# Altium footprint library 杂项库.PcbLib: 585 footprints (part 30 of 37)
Each footprint in its own frame and in the unit in brackets; x right, y up, seen from the top. Pads: shape width x height; smd on the part's side, far side on the other; paste and mask are expansions set on the pad; w line width, h text height; cw(c..) or ccw(c..) is an arc to the next point about the centre after c.
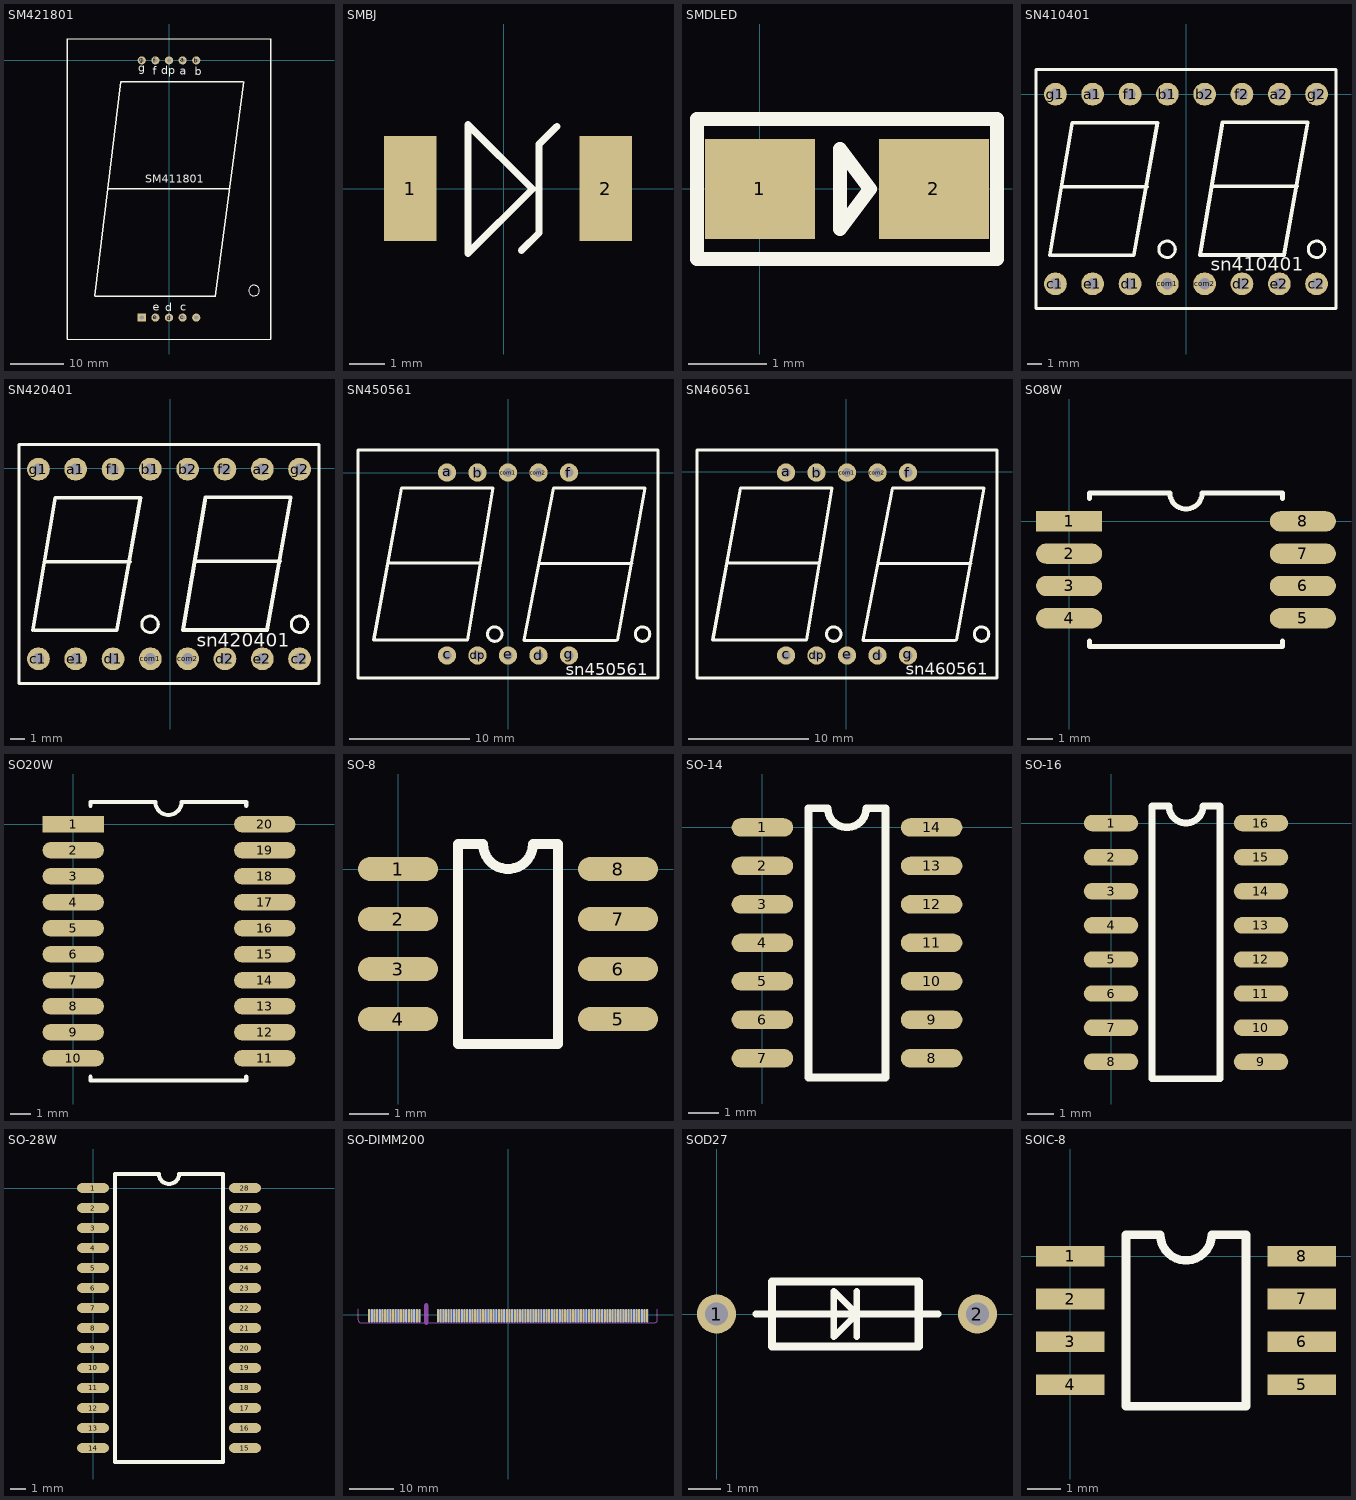
[diagram p29: the footprints below, top view; thin cyan lines are the x and y axes]

## SM421801 [mil]
pads (10):
  round 60 hole 32: a(100,0) b(200,0) c(100,-1889.76) com(200,-1889.76) d(0,-1889.76) dp(0,0) e(-100,-1889.76) f(-100,0) g(-200,0)
  rect 60x60 hole 32: com(-200,-1889.76)
Top Overlay:
  circle w8: c624.63,-1691 r39.37
  lines w8: -748.03,-2047.24 748.03,-2047.24 ; -748.03,157.48 748.03,157.48
  lines w10: -748.03,-2047.24 -748.03,157.48 ; -545,-1732.28 342.52,-1732.28 ; -545,-1728 -355.02,-157.48 544.2,-157.48 ; -451,-943 445,-943 ; 341.23,-1732.28 549,-157.48 ; 748.03,-2047.24 748.03,157.48
  text "SM411801" at -175,-900 h59.05
  text "d" at -27,-1843 h60
  text "c" at 83,-1838 h60
  text "dp" at -58,-100 h60
  text "e" at -121,-1838 h60
  text "b" at 188,-110 h60
  text "a" at 78,-105 h60
  text "f" at -121,-105 h60
  text "g" at -226,-84 h60

## SMBJ [mm]
pads (2):
  rect 1.5x3 smd: 1(-2.667,0) 2(2.921,0)
Top Overlay:
  lines w0.203: 0.508,-1.778 1.016,-1.27 1.016,1.27 1.524,1.778 ; -1.016,-1.854 0.826,-0.013 -1.016,1.829 -1.016,-1.854

## SMDLED [mm]
pads (2):
  rect 1.4x1.27 smd: 1(0.001,-0.002) 2(2.211,-0.002)
Top Overlay:
  lines w0.178: 3.012,0.887 3.011,0.887 ; 3.011,0.887 3.011,-0.891 -0.799,-0.891 -0.799,-0.002 -0.799,0.887 3.011,0.887 ; 1.017,-0.51 1.017,0.506 1.398,-0.002 1.017,-0.51

## SN410401 [mil]
pads (16):
  round 60 hole 30: a1(-246.06,0) a2(246.06,0) b1(-49.21,0) b2(49.21,0) c1(-344.49,-500) c2(344.49,-500) com1(-49.21,-500) com2(49.21,-500) d1(-147.64,-500) d2(147.64,-500) e1(-246.06,-500) e2(246.06,-500) f1(-147.64,0) f2(147.64,0) g1(-344.49,0) g2(344.49,0)
Top Overlay:
  circle w8: c-50,-409 r21.65
  circle w8: c344.35,-409 r21.65
  lines w8: -395.67,-564.96 -395.67,64.96 395.67,64.96 395.67,-564.96 -395.67,-564.96
  lines w10: -359.15,-425 -300,-75 -75,-75 -137.63,-425 ; -354,-425 -137.79,-425 ; -328,-244 -103,-244 ; 36.85,-424 96,-74 321,-74 258.37,-424 ; 42,-424 258.2,-424 ; 68,-243 293,-243
  text "sn410401" at 65,-465 h35.43

## SN420401 [mil]
pads (16):
  round 60 hole 30: a1(-249.06,-2) a2(243.06,-2) b1(-52.21,-2) b2(46.21,-2) c1(-347.49,-502) c2(341.49,-502) com1(-52.21,-502) com2(46.21,-502) d1(-150.64,-502) d2(144.64,-502) e1(-249.06,-502) e2(243.06,-502) f1(-150.64,-2) f2(144.64,-2) g1(-347.49,-2) g2(341.49,-2)
Top Overlay:
  circle w8: c341.35,-411 r21.65
  circle w8: c-53,-411 r21.65
  lines w8: -398.67,-566.96 392.67,-566.96 392.67,62.96 -398.67,62.96 -398.67,-566.96
  lines w10: -362.15,-427 -303,-77 -78,-77 -140.63,-427 ; -357,-427 -140.79,-427 ; -331,-246 -106,-246 ; 33.85,-426 93,-76 318,-76 255.37,-426 ; 39,-426 255.21,-426 ; 65,-245 290,-245
  text "sn420401" at 70,-470 h35.43

## SN450561 [mil]
pads (10):
  round 60 hole 30: a(-200,0) b(-100,0) c(-200,-600) com1(0,0) com2(100,0) d(100,-600) dp(-100,-600) e(0,-600) f(200,0) g(200,-600)
Top Overlay:
  circle w10: c-43.62,-530 r23.62
  circle w10: c441.38,-530 r23.62
  lines w10: -440.46,-550 -350,-50 -50,-50 -133.5,-550 -437.01,-550 ; -394,-297 -91,-297 ; 52.58,-550 150,-50 350,-50 450,-50 359.54,-550 ; 53.05,-551 354.33,-551 ; 101,-298 406,-298 ; -492.13,-674.02 492.13,-674.02 492.13,74.02 -492.13,74.02 -492.13,-674.02
  text "sn450561" at 190,-665 h39.37

## SN460561 [mil]
pads (10):
  round 60 hole 30: a(-198,-2) b(-98,-2) c(-198,-602) com1(2,-2) com2(102,-2) d(102,-602) dp(-98,-602) e(2,-602) f(202,-2) g(202,-602)
Top Overlay:
  circle w10: c443.38,-532 r23.62
  circle w10: c-41.62,-532 r23.62
  lines w10: -438.46,-552 -348,-52 -48,-52 -131.5,-552 -435.01,-552 ; -392,-299 -89,-299 ; 54.58,-552 152,-52 352,-52 452,-52 361.54,-552 ; 55.05,-553 356.33,-553 ; 103,-300 408,-300 ; -490.13,-676.02 -490.13,72.02 494.13,72.02 494.13,-676.02 -490.13,-676.02
  text "sn460561" at 195,-665 h39.37

## SO8W [mm]
pads (8):
  rect 2.6x0.8 smd: 1(0,0)
  oval 2.6x0.8 smd: 2(0,-1.27) 3(0,-2.54) 4(0,-3.81) 5(9.2,-3.81) 6(9.2,-2.54) 7(9.2,-1.27) 8(9.2,0)
Top Overlay:
  lines w0.2: 0.8,-4.71 0.8,-4.93 8.4,-4.93 8.4,-4.71 ; 0.8,0.9 0.8,1.12 3.965,1.12 ccw(c4.6,1.12) 5.235,1.12 8.4,1.12 8.4,0.9

## SO20W [mm]
pads (20):
  rect 3x0.8 smd: 1(0,0)
  oval 3x0.8 smd: 2(0,-1.27) 3(0,-2.54) 4(0,-3.81) 5(0,-5.08) 6(0,-6.35) 7(0,-7.62) 8(0,-8.89) 9(0,-10.16) 10(0,-11.43) 11(9.352,-11.43) 12(9.352,-10.16) 13(9.352,-8.89) 14(9.352,-7.62) 15(9.352,-6.35) 16(9.352,-5.08) 17(9.352,-3.81) 18(9.352,-2.54) 19(9.352,-1.27) 20(9.352,0)
Top Overlay:
  lines w0.2: 0.851,-12.33 0.851,-12.515 8.451,-12.515 8.451,-12.33 ; 0.851,0.9 0.851,1.085 4.016,1.085 ccw(c4.651,1.085) 5.286,1.085 8.451,1.085 8.451,0.9

## SO-8 [mil]
pads (8):
  oval 80x24 smd: 1(0,0) 2(0,-50) 3(0,-100) 4(0,-150) 5(220,-150) 6(220,-100) 7(220,-50) 8(220,0)
Top Overlay:
  lines w10: 60,-175 60,25 85,25 ccw(c110,25) 135,25 160,25 160,-175 60,-175

## SO-14 [mil]
pads (14):
  oval 80x24 smd: 1(0,0) 2(0,-50) 3(0,-100) 4(0,-150) 5(0,-200) 6(0,-250) 7(0,-300) 8(220,-300) 9(220,-250) 10(220,-200) 11(220,-150) 12(220,-100) 13(220,-50) 14(220,0)
Top Overlay:
  lines w10: 60,-325 160,-325 160,25 135,25 cw(c110,25) 85,25 60,25 60,-325

## SO-16 [mil]
pads (16):
  oval 80x24 smd: 1(0,0) 2(0,-50) 3(0,-100) 4(0,-150) 5(0,-200) 6(0,-250) 7(0,-300) 8(0,-350) 9(220,-350) 10(220,-300) 11(220,-250) 12(220,-200) 13(220,-150) 14(220,-100) 15(220,-50) 16(220,0)
Top Overlay:
  lines w10: 60,-375 60,25 85,25 ccw(c110,25) 135,25 160,25 160,-375 60,-375

## SO-28W [mil]
pads (28):
  oval 80x24 smd: 1(0,0) 2(0,-50) 3(0,-100) 4(0,-150) 5(0,-200) 6(0,-250) 7(0,-300) 8(0,-350) 9(0,-400) 10(0,-450) 11(0,-500) 12(0,-550) 13(0,-600) 14(0,-650) 15(380,-650) 16(380,-600) 17(380,-550) 18(380,-500) 19(380,-450) 20(380,-400) 21(380,-350) 22(380,-300) 23(380,-250) 24(380,-200) 25(380,-150) 26(380,-100) 27(380,-50) 28(380,0)
Top Overlay:
  lines w10: 55,-685 325,-685 325,35 215,35 cw(c190,35) 165,35 55,35 55,-685

## SO-DIMM200 [mm]
pads (200):
  oval 0.45x3 smd: A1(-31.5,-0.2) A2(-30.9,-0.2) A3(-30.3,-0.2) A4(-29.7,-0.2) A5(-29.1,-0.2) A6(-28.5,-0.2) A7(-27.9,-0.2) A8(-27.3,-0.2) A9(-26.7,-0.2) A10(-26.1,-0.2) A11(-25.5,-0.2) A12(-24.9,-0.2) A13(-24.3,-0.2) A14(-23.7,-0.2) A15(-23.1,-0.2) A16(-22.5,-0.2) A17(-21.9,-0.2) A18(-21.3,-0.2) A19(-20.7,-0.2) A20(-20.1,-0.2) A21(-15.9,-0.2) A22(-15.3,-0.2) A23(-14.7,-0.2) A24(-14.1,-0.2) A25(-13.5,-0.2) A26(-12.9,-0.2) A27(-12.3,-0.2) A28(-11.7,-0.2) A29(-11.1,-0.2) A30(-10.5,-0.2) A31(-9.9,-0.2) A32(-9.3,-0.2) A33(-8.7,-0.2) A34(-8.1,-0.2) A35(-7.5,-0.2) A36(-6.9,-0.2) A37(-6.3,-0.2) A38(-5.7,-0.2) A39(-5.1,-0.2) A40(-4.5,-0.2) A41(-3.9,-0.2) A42(-3.3,-0.2) A43(-2.7,-0.2) A44(-2.1,-0.2) A45(-1.5,-0.2) A46(-0.9,-0.2) A47(-0.3,-0.2) A48(0.3,-0.2) A49(0.9,-0.2) A50(1.5,-0.2) A51(2.1,-0.2) A52(2.7,-0.2) A53(3.3,-0.2) A54(3.9,-0.2) A55(4.5,-0.2) A56(5.1,-0.2) A57(5.7,-0.2) A58(6.3,-0.2) A59(6.9,-0.2) A60(7.5,-0.2) A61(8.1,-0.2) A62(8.7,-0.2) A63(9.3,-0.2) A64(9.9,-0.2) A65(10.5,-0.2) A66(11.1,-0.2) A67(11.7,-0.2) A68(12.3,-0.2) A69(12.9,-0.2) A70(13.5,-0.2) A71(14.1,-0.2) A72(14.7,-0.2) A73(15.3,-0.2) A74(15.9,-0.2) A75(16.5,-0.2) A76(17.1,-0.2) A77(17.7,-0.2) A78(18.3,-0.2) A79(18.9,-0.2) A80(19.5,-0.2) A81(20.1,-0.2) A82(20.7,-0.2) A83(21.3,-0.2) A84(21.9,-0.2) A85(22.5,-0.2) A86(23.1,-0.2) A87(23.7,-0.2) A88(24.3,-0.2) A89(24.9,-0.2) A90(25.5,-0.2) A91(26.1,-0.2) A92(26.7,-0.2) A93(27.3,-0.2) A94(27.9,-0.2) A95(28.5,-0.2) A96(29.1,-0.2) A97(29.7,-0.2) A98(30.3,-0.2) A99(30.9,-0.2) A100(31.5,-0.2)
  oval 0.45x3 smd far side: B1(-31.5,-0.2) B2(-30.9,-0.2) B3(-30.3,-0.2) B4(-29.7,-0.2) B5(-29.1,-0.2) B6(-28.5,-0.2) B7(-27.9,-0.2) B8(-27.3,-0.2) B9(-26.7,-0.2) B10(-26.1,-0.2) B11(-25.5,-0.2) B12(-24.9,-0.2) B13(-24.3,-0.2) B14(-23.7,-0.2) B15(-23.1,-0.2) B16(-22.5,-0.2) B17(-21.9,-0.2) B18(-21.3,-0.2) B19(-20.7,-0.2) B20(-20.1,-0.2) B21(-15.9,-0.2) B22(-15.3,-0.2) B23(-14.7,-0.2) B24(-14.1,-0.2) B25(-13.5,-0.2) B26(-12.9,-0.2) B27(-12.3,-0.2) B28(-11.7,-0.2) B29(-11.1,-0.2) B30(-10.5,-0.2) B31(-9.9,-0.2) B32(-9.3,-0.2) B33(-8.7,-0.2) B34(-8.1,-0.2) B35(-7.5,-0.2) B36(-6.9,-0.2) B37(-6.3,-0.2) B38(-5.7,-0.2) B39(-5.1,-0.2) B40(-4.5,-0.2) B41(-3.9,-0.2) B42(-3.3,-0.2) B43(-2.7,-0.2) B44(-2.1,-0.2) B45(-1.5,-0.2) B46(-0.9,-0.2) B47(-0.3,-0.2) B48(0.3,-0.2) B49(0.9,-0.2) B50(1.5,-0.2) B51(2.1,-0.2) B52(2.7,-0.2) B53(3.3,-0.2) B54(3.9,-0.2) B55(4.5,-0.2) B56(5.1,-0.2) B57(5.7,-0.2) B58(6.3,-0.2) B59(6.9,-0.2) B60(7.5,-0.2) B61(8.1,-0.2) B62(8.7,-0.2) B63(9.3,-0.2) B64(9.9,-0.2) B65(10.5,-0.2) B66(11.1,-0.2) B67(11.7,-0.2) B68(12.3,-0.2) B69(12.9,-0.2) B70(13.5,-0.2) B71(14.1,-0.2) B72(14.7,-0.2) B73(15.3,-0.2) B74(15.9,-0.2) B75(16.5,-0.2) B76(17.1,-0.2) B77(17.7,-0.2) B78(18.3,-0.2) B79(18.9,-0.2) B80(19.5,-0.2) B81(20.1,-0.2) B82(20.7,-0.2) B83(21.3,-0.2) B84(21.9,-0.2) B85(22.5,-0.2) B86(23.1,-0.2) B87(23.7,-0.2) B88(24.3,-0.2) B89(24.9,-0.2) B90(25.5,-0.2) B91(26.1,-0.2) B92(26.7,-0.2) B93(27.3,-0.2) B94(27.9,-0.2) B95(28.5,-0.2) B96(29.1,-0.2) B97(29.7,-0.2) B98(30.3,-0.2) B99(30.9,-0.2) B100(31.5,-0.2)
Top Solder:
  rectangle: -34.034,-1.746 33.962,1.352
Bottom Solder:
  rectangle: -34.034,-1.746 33.962,1.352
Mechanical 1:
  lines w0.254: -34.034,-1.086 ccw(c-33.323,-1.086) -33.272,-1.796 33.194,-1.778 ccw(c33.194,-1.137) 33.835,-1.137 33.835,1.276 ; -34.034,-1.111 -34.034,1.403
  lines w1: -18.6,-1.8 -18.6,2.2

## SOD27 [mm]
pads (2):
  round 1.2 hole 0.7: 1(0,0) 2(8,0)
Top Overlay:
  lines w0.2: 1.2,0 5.3,0 6.8,0 ; 4.3,-0.7 4.3,0.7 ; 3.6,-0.7 4.3,0 3.6,0.7 3.6,-0.7
  lines w0.254: 1.7,-1 6.2,-1 6.2,1 1.7,1 1.7,-1

## SOIC-8 [mil]
pads (8):
  rect 80x24 smd: 1(0,0) 2(0,-50.06) 3(0,-100.06) 4(0,-150.06) 5(270,-150) 6(270,-100) 7(270,-50) 8(270,0)
Top Overlay:
  lines w10: 75,24.94 75.06,25 105,25 ccw(c135,25) 165,25 204.94,25 205,24.94 205,-175.06 65,-175.06 65,24.94 95,24.94